# EAGLE library part WE-RJ45_7497011611A (library 7499511611A_Eagle_WE-RJ45_rev20a)
WE-RJ45 LAN Transformer Characteristics RJ45 Connector with integrated transformer / common mode choke Power over Ethernet up to 50 Watt and speeds up to 10 Gbit/s Available in SMD, THT and THT with USB Compliant with standards: IEEE 802.3u, IEEE 802.3ab, IEEE 802.3af, IEEE 802.3at, IEEE 802.3an and upcoming IEE 802.3bt Applications Suitable for industrial temperatures from –40 °C up to +85 °C Compatible to Industrial Ethernet systems like EtherCAT or Profinet Compliant with most IC’s for Ethernet applications such as Microchip, Texas Instruments, Broadcom, Linear Technology Hubs, Routers, Switches, IP cameras, IoT applications <https://katalog.we-online.com/media/images/v2/o35731v209%20Family_WE-RJ45-LAN.jpg> Details see: https://katalog.we-online.com/en/pbs/WE-LAN-RJ45 Updated by Ella Wu 2019-08-05 2019 (C) Wurth Elektronik
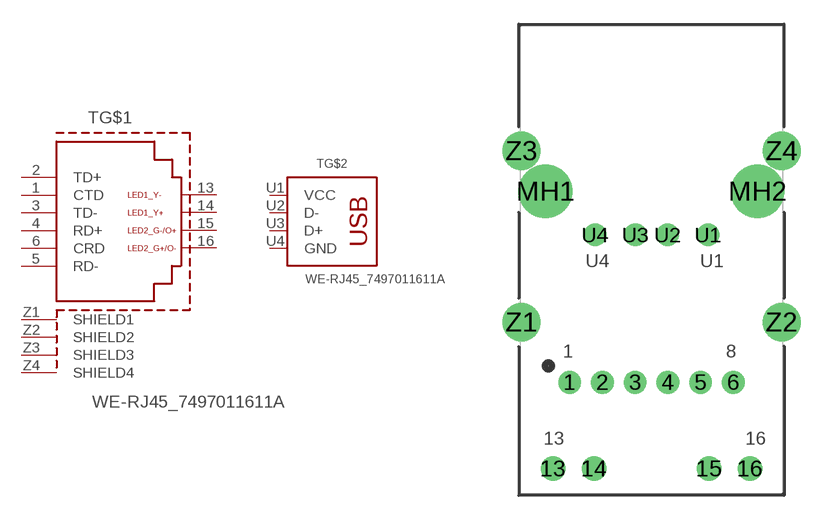
[diagram p6: symbol with the pads of 7497011611A; footprint 7497011611A]

Designator prefix T; gates G$1=7497011611A G$2=USB2.0

## WE-RJ45_7497011611A (DATA-RATE: 10/100 Base-T; DATASHEET-URL: https://www.we-online.com/catalog/datasheet/7497011611A.pdf; LED: green/orange-yellow; MOUNT: THT; PART-NUMBER: 7497011611A; POE: non-PoE; PORTS: 1; USB: USB 2.0)  [7497011611A]
1  G$1:CTD
2  G$1:TD+
3  G$1:TD-
4  G$1:RD+
5  G$1:RD-
6  G$1:CRD
13  G$1:LED1_Y-
14  G$1:LED1_Y+
15  G$1:LED2_G-/O+
16  G$1:LED2_G+/O-
U1  G$2:VCC  pwr
U2  G$2:D-
U3  G$2:D+
U4  G$2:GND  pwr
Z1  G$1:SHIELD1  pwr
Z2  G$1:SHIELD2  pwr
Z3  G$1:SHIELD3  pwr
Z4  G$1:SHIELD4  pwr

## Footprint 7497011611A (pad centres in mm)
WE-RJ45 LAN Transformer 10/100 Base-T
drill 0.9: 1 -5.07,-3.73; 2 -3.042,-3.73; 3 -1.014,-3.73; 4 1.014,-3.73; 5 3.042,-3.73; 6 5.07,-3.73; U1 3.5,5.41; U2 1,5.41; U3 -1,5.41; U4 -3.5,5.41
drill 1.02: 13 -6.1,-9.08; 14 -3.56,-9.08; 15 3.56,-9.08; 16 6.1,-9.08
drill 2.31: MH1 -6.57,8.11; MH2 6.57,8.11
drill 1.57: Z1 -8.06,0; Z2 8.06,0; Z3 -8.06,10.62; Z4 8.06,10.62